# Altium schematic symbol library ADP3367ARZ.SchLib: 1 symbol
Pins are listed as number, name and electrical type; pins without a type are passive.

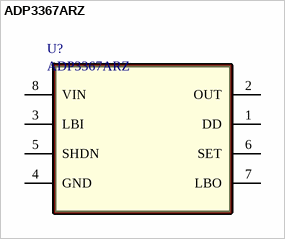
[diagram p0: symbol ADP3367ARZ]

## ADP3367ARZ
designator U?
footprint Model Name (Footprint not found)
pins: 1 DD, 2 OUT, 3 LBI, 4 GND, 5 SHDN, 6 SET, 7 LBO, 8 VIN